# Altium footprint library BGA.PcbLib: 1 footprints
Each footprint in its own frame and in the unit in brackets; x right, y up, seen from the top. Pads: shape width x height; smd on the part's side, far side on the other; paste and mask are expansions set on the pad; w line width, h text height; cw(c..) or ccw(c..) is an arc to the next point about the centre after c.
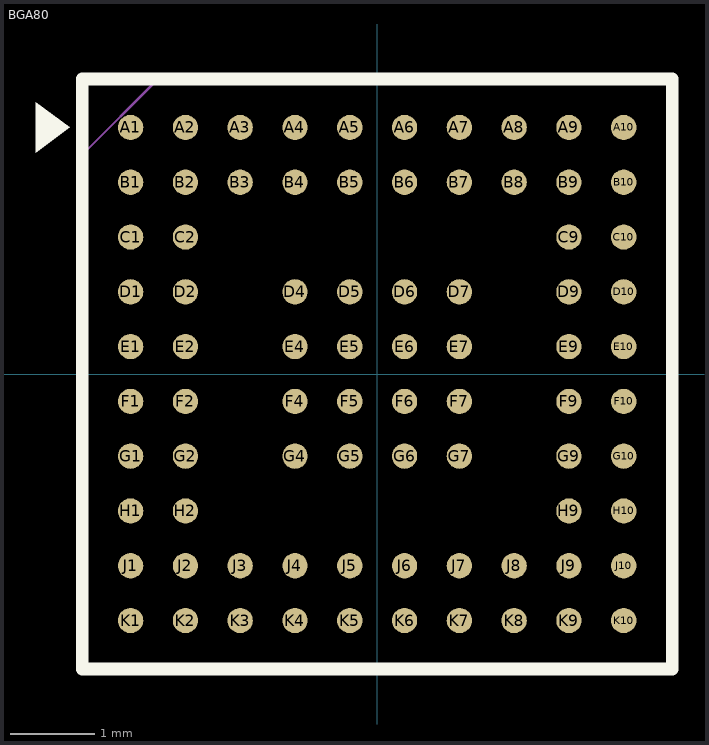
[diagram p0: the footprint, top view; thin cyan lines are the x and y axes]

## BGA80 [mm]
pads (80):
  round 0.3 smd mask+0.064: A1(-2.925,2.925) A2(-2.275,2.925) A3(-1.625,2.925) A4(-0.975,2.925) A5(-0.325,2.925) A6(0.325,2.925) A7(0.975,2.925) A8(1.625,2.925) A9(2.275,2.925) A10(2.925,2.925) B1(-2.925,2.275) B2(-2.275,2.275) B3(-1.625,2.275) B4(-0.975,2.275) B5(-0.325,2.275) B6(0.325,2.275) B7(0.975,2.275) B8(1.625,2.275) B9(2.275,2.275) B10(2.925,2.275) C1(-2.925,1.625) C2(-2.275,1.625) C9(2.275,1.625) C10(2.925,1.625) D1(-2.925,0.975) D2(-2.275,0.975) D4(-0.975,0.975) D5(-0.325,0.975) D6(0.325,0.975) D7(0.975,0.975) D9(2.275,0.975) D10(2.925,0.975) E1(-2.925,0.325) E2(-2.275,0.325) E4(-0.975,0.325) E5(-0.325,0.325) E6(0.325,0.325) E7(0.975,0.325) E9(2.275,0.325) E10(2.925,0.325) F1(-2.925,-0.325) F2(-2.275,-0.325) F4(-0.975,-0.325) F5(-0.325,-0.325) F6(0.325,-0.325) F7(0.975,-0.325) F9(2.275,-0.325) F10(2.925,-0.325) G1(-2.925,-0.975) G2(-2.275,-0.975) G4(-0.975,-0.975) G5(-0.325,-0.975) G6(0.325,-0.975) G7(0.975,-0.975) G9(2.275,-0.975) G10(2.925,-0.975) H1(-2.925,-1.625) H2(-2.275,-1.625) H9(2.275,-1.625) H10(2.925,-1.625) J1(-2.925,-2.275) J2(-2.275,-2.275) J3(-1.625,-2.275) J4(-0.975,-2.275) J5(-0.325,-2.275) J6(0.325,-2.275) J7(0.975,-2.275) J8(1.625,-2.275) J9(2.275,-2.275) J10(2.925,-2.275) K1(-2.925,-2.925) K2(-2.275,-2.925) K3(-1.625,-2.925) K4(-0.975,-2.925) K5(-0.325,-2.925) K6(0.325,-2.925) K7(0.975,-2.925) K8(1.625,-2.925) K9(2.275,-2.925) K10(2.925,-2.925)
Top Overlay:
  region: -3.65,2.925 -4.05,2.625 -4.05,3.226
  lines w0.15: -3.5,-3.5 -3.5,3.5 3.5,3.5 3.5,-3.5 -3.5,-3.5
Mechanical 1:
  lines w0.025: -3.5,2.6 -2.6,3.5 ; -3.5,-3.5 3.5,-3.5 3.5,3.5 -3.5,3.5 -3.5,-3.5
3D body: height 0.29, standoff -0.05, extent -3.095,2.756 -2.757,3.094
3D body: height 0.29, standoff -0.05, extent -2.443,2.756 -2.105,3.095
3D body: height 0.29, standoff -0.05, extent -1.793,2.756 -1.455,3.095
3D body: height 0.29, standoff -0.05, extent -1.143,2.756 -0.805,3.095
3D body: height 0.29, standoff -0.05, extent -0.493,2.756 -0.155,3.095
3D body: height 0.29, standoff -0.05, extent 0.157,2.756 0.495,3.095
3D body: height 0.29, standoff -0.05, extent 0.807,2.756 1.145,3.095
3D body: height 0.29, standoff -0.05, extent 1.457,2.756 1.795,3.095
3D body: height 0.29, standoff -0.05, extent 2.107,2.756 2.445,3.095
3D body: height 0.29, standoff -0.05, extent 2.757,2.756 3.095,3.095
3D body: height 0.29, standoff -0.05, extent 2.756,2.105 3.095,2.443
3D body: height 0.29, standoff -0.05, extent 2.105,2.105 2.443,2.444
3D body: height 0.29, standoff -0.05, extent -0.495,2.105 -0.157,2.444
3D body: height 0.29, standoff -0.05, extent 0.155,2.105 0.493,2.444
3D body: height 0.29, standoff -0.05, extent -1.145,2.105 -0.807,2.444
3D body: height 0.29, standoff -0.05, extent -1.795,2.105 -1.457,2.444
3D body: height 0.29, standoff -0.05, extent -2.445,2.105 -2.107,2.444
3D body: height 0.29, standoff -0.05, extent -3.095,2.105 -2.757,2.444
3D body: height 0.29, standoff -0.05, extent -2.445,1.455 -2.107,1.794
3D body: height 0.29, standoff -0.05, extent -3.095,1.455 -2.757,1.794
3D body: height 0.29, standoff -0.05, extent -2.445,0.805 -2.107,1.144
3D body: height 0.29, standoff -0.05, extent -3.095,0.805 -2.757,1.144
3D body: height 0.29, standoff -0.05, extent -1.143,0.806 -0.805,1.145
3D body: height 0.29, standoff -0.05, extent -0.493,0.806 -0.155,1.145
3D body: height 0.29, standoff -0.05, extent 0.157,0.806 0.495,1.145
3D body: height 0.29, standoff -0.05, extent 1.457,2.106 1.795,2.445
3D body: height 0.29, standoff -0.05, extent 0.807,2.106 1.145,2.445
3D body: height 0.29, standoff -0.05, extent 0.807,0.806 1.145,1.145
3D body: height 0.29, standoff -0.05, extent 2.107,1.456 2.445,1.795
3D body: height 0.29, standoff -0.05, extent 2.757,1.456 3.095,1.795
3D body: height 0.29, standoff -0.05, extent 2.757,0.806 3.095,1.145
3D body: height 0.29, standoff -0.05, extent 2.107,0.806 2.445,1.145
3D body: height 0.29, standoff -0.05, extent 2.107,0.156 2.445,0.495
3D body: height 0.29, standoff -0.05, extent 2.757,0.156 3.095,0.495
3D body: height 0.29, standoff -0.05, extent 2.756,-0.495 3.095,-0.157
3D body: height 0.29, standoff -0.05, extent 0.805,0.155 1.143,0.494
3D body: height 0.29, standoff -0.05, extent 0.805,-0.495 1.143,-0.156
3D body: height 0.29, standoff -0.05, extent 0.155,-0.495 0.493,-0.156
3D body: height 0.29, standoff -0.05, extent 0.155,0.155 0.493,0.494
3D body: height 0.29, standoff -0.05, extent -0.495,-0.495 -0.157,-0.156
3D body: height 0.29, standoff -0.05, extent -0.495,0.155 -0.157,0.494
3D body: height 0.29, standoff -0.05, extent -1.145,0.155 -0.807,0.494
3D body: height 0.29, standoff -0.05, extent -2.445,0.155 -2.107,0.494
3D body: height 0.29, standoff -0.05, extent -3.095,0.155 -2.757,0.494
3D body: height 0.29, standoff -0.05, extent -1.145,-0.495 -0.807,-0.156
3D body: height 0.29, standoff -0.05, extent -3.095,-0.494 -2.757,-0.156
3D body: height 0.29, standoff -0.05, extent -2.443,-0.494 -2.105,-0.155
3D body: height 0.29, standoff -0.05, extent -3.094,-1.145 -2.755,-0.807
3D body: height 0.29, standoff -0.05, extent -3.094,-1.795 -2.755,-1.457
3D body: height 0.29, standoff -0.05, extent -2.443,-1.144 -2.105,-0.805
3D body: height 0.29, standoff -0.05, extent -2.443,-1.794 -2.105,-1.455
3D body: height 0.29, standoff -0.05, extent -1.143,-1.144 -0.805,-0.805
3D body: height 0.29, standoff -0.05, extent -0.493,-1.144 -0.155,-0.805
3D body: height 0.29, standoff -0.05, extent 0.157,-1.144 0.495,-0.805
3D body: height 0.29, standoff -0.05, extent 0.807,-1.144 1.145,-0.805
3D body: height 0.29, standoff -0.05, extent 2.107,-1.794 2.445,-1.455
3D body: height 0.29, standoff -0.05, extent 2.106,-2.445 2.445,-2.107
3D body: height 0.29, standoff -0.05, extent 1.455,-2.445 1.793,-2.106
3D body: height 0.29, standoff -0.05, extent 0.805,-2.445 1.143,-2.106
3D body: height 0.29, standoff -0.05, extent 0.155,-2.445 0.493,-2.106
3D body: height 0.29, standoff -0.05, extent -0.495,-2.445 -0.157,-2.106
3D body: height 0.29, standoff -0.05, extent -1.145,-2.445 -0.807,-2.106
3D body: height 0.29, standoff -0.05, extent -1.795,-2.445 -1.457,-2.106
3D body: height 0.29, standoff -0.05, extent -3.095,-2.445 -2.757,-2.106
3D body: height 0.29, standoff -0.05, extent -2.443,-2.444 -2.105,-2.105
3D body: height 0.29, standoff -0.05, extent -3.094,-3.095 -2.755,-2.757
3D body: height 0.29, standoff -0.05, extent -2.443,-3.094 -2.105,-2.755
3D body: height 0.29, standoff -0.05, extent -1.793,-3.094 -1.455,-2.755
3D body: height 0.29, standoff -0.05, extent -1.143,-3.094 -0.805,-2.755
3D body: height 0.29, standoff -0.05, extent -0.493,-3.094 -0.155,-2.755
3D body: height 0.29, standoff -0.05, extent -0.493,-3.094 -0.155,-2.755
3D body: height 0.29, standoff -0.05, extent 0.157,-3.094 0.495,-2.755
3D body: height 0.29, standoff -0.05, extent 0.807,-3.094 1.145,-2.755
3D body: height 0.29, standoff -0.05, extent 1.457,-3.094 1.795,-2.755
3D body: height 0.29, standoff -0.05, extent 2.107,-3.094 2.445,-2.755
3D body: height 0.29, standoff -0.05, extent 2.757,-3.094 3.095,-2.755
3D body: height 0.29, standoff -0.05, extent 2.757,-1.794 3.095,-1.455
3D body: height 0.29, standoff -0.05, extent 2.756,-2.445 3.095,-2.107
3D body: height 0.29, standoff -0.05, extent 2.105,-1.143 2.444,-0.805
3D body: height 0.29, standoff -0.05, extent 2.105,-0.493 2.444,-0.155
3D body: height 0.29, standoff -0.05, extent 2.757,-1.144 3.095,-0.805
3D body: height 1, standoff 0.25, extent -3.5,-3.5 3.5,3.5